# EAGLE library part MOLEX-SD+SIM-104239 (library SimSdCombo)
microSD/Nano-SIM Combo Connector Molex - 1042391430 Description: microSD/Nano-SIM Combo Connector 2.05mm Height, Pull-Lever Eject, Normal Mount, With Detect Switch, 8-Circuit microSD* Card Type, 6-Circuit Nano-SIM Card Type
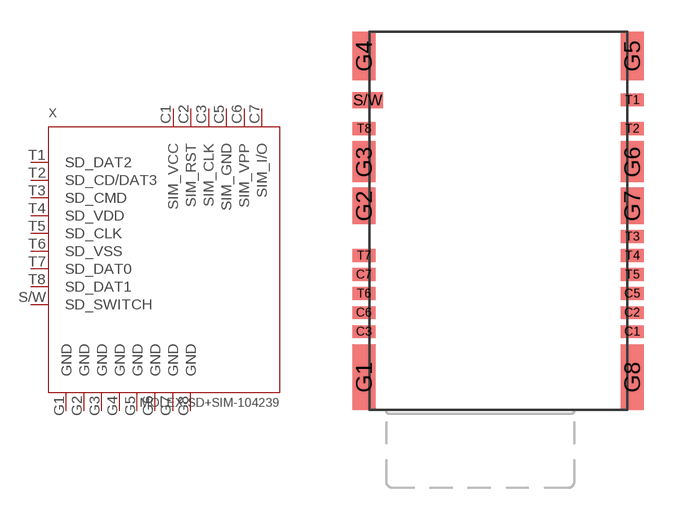
[diagram p0: symbol with the pads of MOLEX-SD+SIM-104239; footprint MOLEX-SD+SIM-104239]

Designator prefix X

## MOLEX-SD+SIM-104239 (MPN: VSHO-21-3301; VALUE: VSHO-21-3301)  [MOLEX-SD+SIM-104239]
C1  SIM_VCC
C2  SIM_RST
C3  SIM_CLK
C5  SIM_GND
C6  SIM_VPP
C7  SIM_I/O
G1  GND  pwr
G2  GND  pwr
G3  GND  pwr
G4  GND  pwr
G5  GND  pwr
G6  GND  pwr
G7  GND  pwr
G8  GND  pwr
S/W  SD_SWITCH
T1  SD_DAT2
T2  SD_CD/DAT3
T3  SD_CMD
T4  SD_VDD
T5  SD_CLK
T6  SD_VSS
T7  SD_DAT0
T8  SD_DAT1

## Footprint MOLEX-SD+SIM-104239 (pad centres in mm)
smd 1.1 x 0.6: C1 6.35,-5.25; C2 6.35,-4.35; C3 -6.35,-5.25; C5 6.35,-3.45; C6 -6.35,-4.35; C7 -6.35,-2.55; T1 6.35,5.715; T2 6.35,4.36; T3 6.35,-0.75; T4 6.35,-1.65; T5 6.35,-2.55; T6 -6.35,-3.45; T7 -6.35,-1.65; T8 -6.35,4.36
smd 1.1 x 3.1: G1 -6.35,-7.4; G8 6.35,-7.4
smd 1.1 x 1.72: G2 -6.35,0.71; G7 6.35,0.71
smd 1.1 x 1.94: G3 -6.35,2.79; G6 6.35,2.79
smd 1.1 x 2.3: G4 -6.35,7.8; G5 6.35,7.8
smd 1.45 x 0.75: S/W -6.175,5.715